# EAGLE library part 5584ЛИ1АУ (library std-logic)
Четыре логических элемента 2И. Производитель: ОАО "ИНТЕГРАЛ", г. Минск, р. Беларусь Технические условия: АЕЯР.431200.209 ТУ
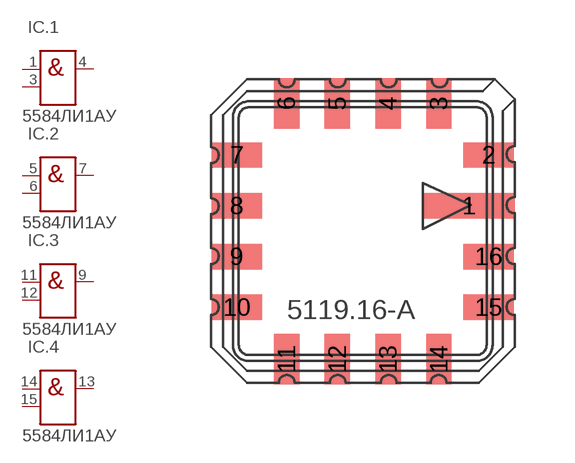
[diagram p2: symbol with the pads of 5119.16-А; footprint 5119.16-А]

Designator prefix IC; gates .1=5584ЛИ1АУ .2=5584ЛИ1АУ .3=5584ЛИ1АУ .4=5584ЛИ1АУ

## 5584ЛИ1АУ  [5119.16-А]
1  .1:IN1  in
3  .1:IN2  in
4  .1:OUT  out
5  .2:IN1  in
6  .2:IN2  in
7  .2:OUT  out
9  .3:OUT  out
11  .3:IN1  in
12  .3:IN2  in
13  .4:OUT  out
14  .4:IN1  in
15  .4:IN2  in

## Footprint 5119.16-А (pad centres in mm)
smd 2.3 x 0.635: 1 2.66,0.635
smd 1.27 x 0.635: 2 3.15,1.905; 7 -3.15,1.905; 8 -3.15,0.635; 9 -3.15,-0.635; 10 -3.15,-1.905; 15 3.15,-1.905; 16 3.15,-0.635
smd 0.635 x 1.27: 3 1.905,3.2; 4 0.635,3.2; 5 -0.635,3.2; 6 -1.905,3.2; 11 -1.905,-3.2; 12 -0.635,-3.2; 13 0.635,-3.2; 14 1.905,-3.2